# EAGLE library part MAX3221 (library maxim)
RS-232 Transceivers with AutoShutdown 1µA Supply-Current, True +3V to +5.5V http://dbserv.maxim-ic.com/
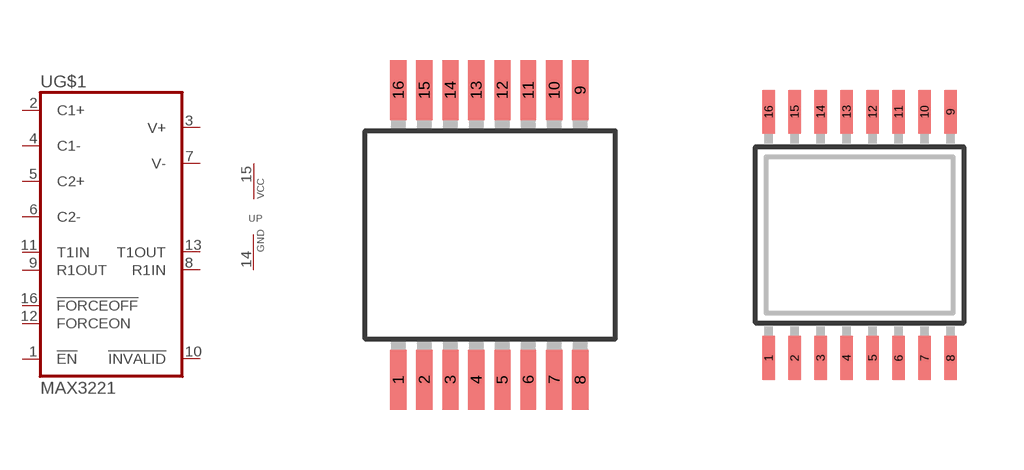
[diagram p386: symbol with the pads of SSOP16; footprints SSOP16, TSSOP16]

Designator prefix U; gates G$1=MAX3221 P=VCC-GND

## MAX3221DB (P1I: o)  [SSOP16]
1  G$1:!EN!  in
2  G$1:C1+  pas
3  G$1:V+  pas
4  G$1:C1-  pas
5  G$1:C2+  pas
6  G$1:C2-  pas
7  G$1:V-  pas
8  G$1:R1IN  in
9  G$1:R1OUT  out
10  G$1:!INVALID!  out
11  G$1:T1IN  in
12  G$1:FORCEON  in
13  G$1:T1OUT  out
14  P:GND  pwr
15  P:VCC  pwr
16  G$1:!FORCEOFF!  in

## MAX3221PW (P1I: o)  [TSSOP16]
Pads as for SSOP16

## Footprint SSOP16 (pad centres in mm)
Shrink Small Outline Package package type SS
smd 0.4 x 1.5: 1 -2.275,-3.625; 2 -1.625,-3.625; 3 -0.975,-3.625; 4 -0.325,-3.625; 5 0.325,-3.625; 6 0.975,-3.625; 7 1.625,-3.625; 8 2.275,-3.625; 9 2.275,3.625; 10 1.625,3.625; 11 0.975,3.625; 12 0.325,3.625; 13 -0.325,3.625; 14 -0.975,3.625; 15 -1.625,3.625; 16 -2.275,3.625

## Footprint TSSOP16 (pad centres in mm)
Thin Shrink Small Outline Plastic 16
smd 0.31 x 1.1: 1 -2.275,-3.08; 2 -1.625,-3.08; 3 -0.975,-3.08; 4 -0.325,-3.08; 5 0.325,-3.08; 6 0.975,-3.08; 7 1.625,-3.08; 8 2.275,-3.08; 9 2.275,3.08; 10 1.625,3.08; 11 0.975,3.08; 12 0.325,3.08; 13 -0.325,3.08; 14 -0.975,3.08; 15 -1.625,3.08; 16 -2.275,3.08